# EAGLE library part NTMD6N03R2 (library Discrete)
Power MOSFET, 30V, 6A, Dual N-Channel
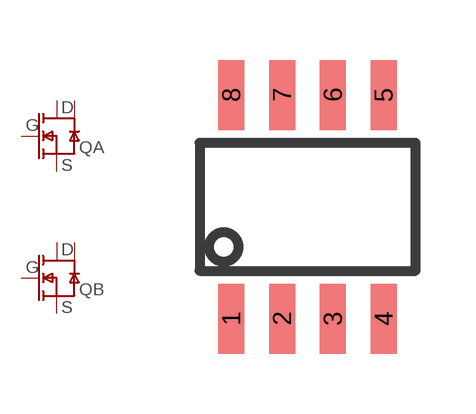
[diagram p15: symbol with the pads of SOIC8; footprint SOIC8]

Designator prefix Q; gates A=MOSFET-N2D B=MOSFET-N2D

## NTMD6N03R2  [SOIC8]
1  A:S1
2  A:G1
3  B:S1
4  B:G1
5  B:D1A
6  B:D1B
7  A:D1A
8  A:D1B

## Footprint SOIC8 (pad centres in mm)
Fairchild 8 Lead SOIC package
smd 0.65 x 1.75: 1 -1.905,-2.8; 2 -0.635,-2.8; 3 0.635,-2.8; 4 1.905,-2.8; 5 1.905,2.8; 6 0.635,2.8; 7 -0.635,2.8; 8 -1.905,2.8